# Altium footprint library Solar_ESC_AM32.PcbLib: 8 footprints
Each footprint in its own frame and in the unit in brackets; x right, y up, seen from the top. Pads: shape width x height; smd on the part's side, far side on the other; paste and mask are expansions set on the pad; w line width, h text height; cw(c..) or ccw(c..) is an arc to the next point about the centre after c.
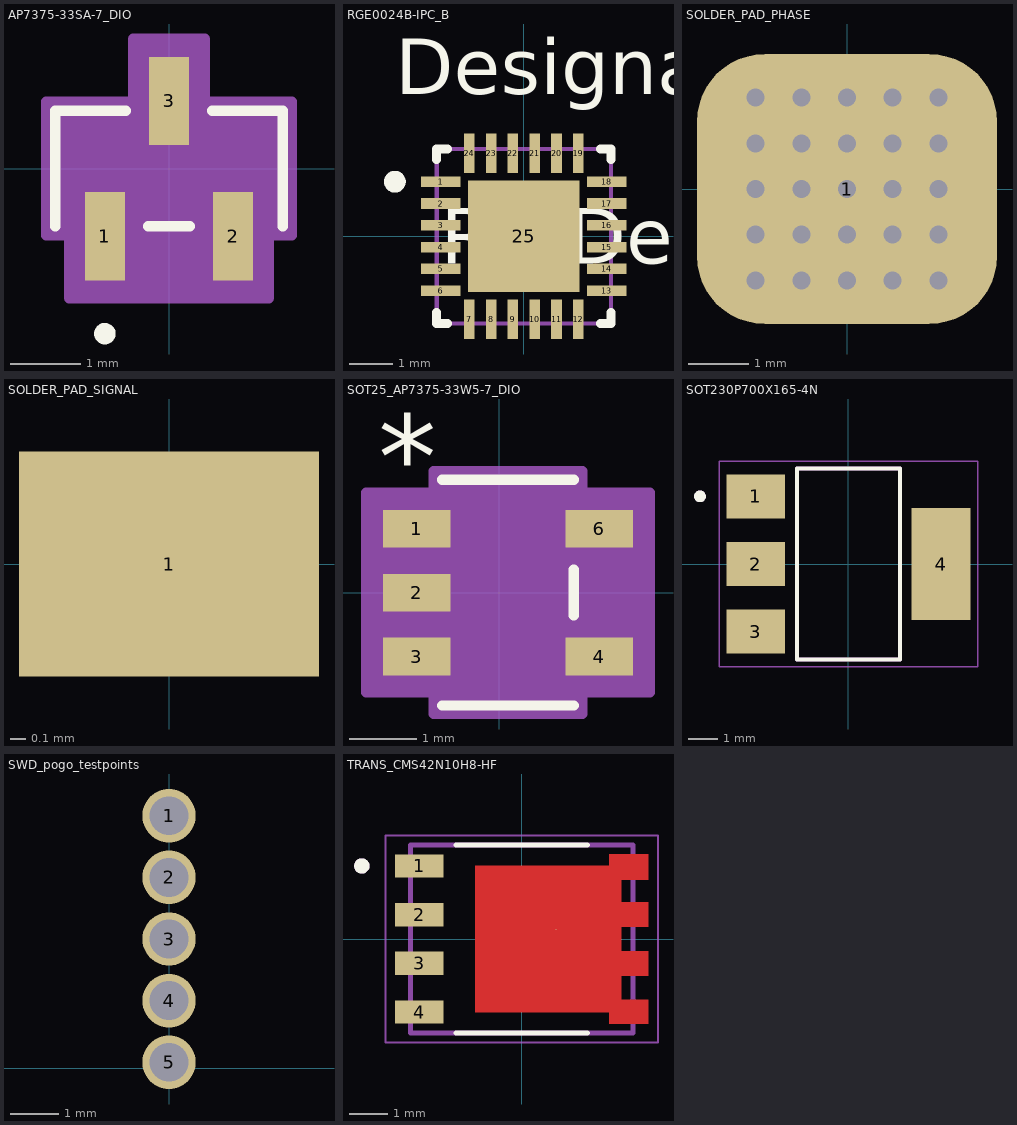
[diagram p0: the footprints below, top view; thin cyan lines are the x and y axes]

## AP7375-33SA-7_DIO [mil]
pads (3):
  rect 22.36x49.56 smd paste+0 mask+0: 1(-36.02,-38) 2(36.02,-38) 3(0,38)
Top Overlay:
  circle w6: c-36.02,-92.78 r3
  lines w6: -64,-32.5 -64,32.5 -24.28,32.5 ; -11.74,-32.5 11.74,-32.5 ; 24.28,32.5 64,32.5 64,-32.5
Mechanical 13:
  circle w1: c-36.02,-17.5 r3
  lines w1: -59,-27.5 59,-27.5 59,27.5 -59,27.5 -59,-27.5 ; -46.02,-49 -46.02,-27.5 -26.02,-27.5 -26.02,-49 -46.02,-49 ; -10,27.5 10,27.5 10,49 -10,49 -10,27.5 ; 26.02,-49 26.02,-27.5 46.02,-27.5 46.02,-49 26.02,-49
Mechanical 15:
  region: -69,-37.5 -69,37.5 -20,37.5 -20,72.78 20,72.78 20,37.5 69,37.5 69,-37.5 56.02,-37.5 56.02,-72.78 -56.02,-72.78 -56.02,-37.5
  lines w6: -69,-37.5 -69,37.5 -20,37.5 -20,72.78 20,72.78 20,37.5 69,37.5 69,-37.5 56.02,-37.5 56.02,-72.78 -56.02,-72.78 -56.02,-37.5 -69,-37.5
3D body "AP7375-33SA-7_DIO.step": height 43.11, standoff 0, extent -59.02,-49.02 59.02,49.02

## RGE0024B-IPC_B [mm]
pads (25):
  rect 0.91x0.242 smd paste+0 mask+0: 1(-1.901,1.25) 2(-1.901,0.75) 3(-1.901,0.25) 4(-1.901,-0.25) 5(-1.901,-0.75) 6(-1.901,-1.25) 13(1.901,-1.25) 14(1.901,-0.75) 15(1.901,-0.25) 16(1.901,0.25) 17(1.901,0.75) 18(1.901,1.25)
  rect 0.242x0.91 smd paste+0 mask+0: 7(-1.25,-1.901) 8(-0.75,-1.901) 9(-0.25,-1.901) 10(0.25,-1.901) 11(0.75,-1.901) 12(1.25,-1.901) 19(1.25,1.901) 20(0.75,1.901) 21(0.25,1.901) 22(-0.25,1.901) 23(-0.75,1.901) 24(-1.25,1.901)
  rect 2.55x2.55 smd paste-1.262 mask+0: 25(0,0)
Top Overlay:
  circle w0.25: c-2.956,1.25 r0.125
  lines w0.2: -2,-1.75 -2,-2 -1.75,-2 ; -2,1.75 -2,2 -1.75,2 ; 1.75,-2 2,-2 2,-1.75 ; 1.75,2 2,2 2,1.75
  text "RefDes" at -1.905,-0.635 h1.27
  text "Designator452" at -2.946,3.251 h1.27
Top Paste:
  region: -0.806,0.806 -0.806,-0.806 0.806,-0.806 0.806,0.806
Mechanical 13:
  lines w0.1: -2,-2 2,-2 2,2 -2,2 -2,-2

## SOLDER_PAD_PHASE [mm]
pads (1):
  rrect50% 5x4.5 smd paste-2539.97 mask+0.15: 1(0,0)
via -1.524,-1.524 diameter 0.6 hole 0.3
via -1.524,-0.762 diameter 0.6 hole 0.3
via -1.524,0 diameter 0.6 hole 0.3
via -1.524,0.762 diameter 0.6 hole 0.3
via -1.524,1.524 diameter 0.6 hole 0.3
via -0.762,-1.524 diameter 0.6 hole 0.3
via -0.762,-0.762 diameter 0.6 hole 0.3
via -0.762,0 diameter 0.6 hole 0.3
via -0.762,0.762 diameter 0.6 hole 0.3
via -0.762,1.524 diameter 0.6 hole 0.3
via 0,-1.524 diameter 0.6 hole 0.3
via 0,-0.762 diameter 0.6 hole 0.3
via 0,0 diameter 0.6 hole 0.3
via 0,0.762 diameter 0.6 hole 0.3
via 0,1.524 diameter 0.6 hole 0.3
via 0.762,-1.524 diameter 0.6 hole 0.3
via 0.762,-0.762 diameter 0.6 hole 0.3
via 0.762,0 diameter 0.6 hole 0.3
via 0.762,0.762 diameter 0.6 hole 0.3
via 0.762,1.524 diameter 0.6 hole 0.3
via 1.524,-1.524 diameter 0.6 hole 0.3
via 1.524,-0.762 diameter 0.6 hole 0.3
via 1.524,0 diameter 0.6 hole 0.3
via 1.524,0.762 diameter 0.6 hole 0.3
via 1.524,1.524 diameter 0.6 hole 0.3

## SOLDER_PAD_SIGNAL [mm]
pads (1):
  rect 2x1.5 smd paste-2539.97 mask+0.1: 1(0,0)

## SOT25_AP7375-33W5-7_DIO [mil]
pads (5):
  rect 39.56x22 smd paste+0 mask+0: 1(-48.28,37.4) 2(-48.28,0) 3(-48.28,-37.4) 4(58.28,-37.4) 6(58.28,37.4)
Top Overlay:
  lines w6: -33.5,-66 43.5,-66 ; -33.5,66 43.5,66 ; 43.5,-13.3 43.5,13.3
  text "*" at -70.78,54.4 h50
  text ".Designator" at -132.5,-25 h50
Mechanical 13:
  lines w1: -7,61 ccw(c5,61) 17,61 ; -54.06,-47.4 -28.5,-47.4 -28.5,-27.4 -54.06,-27.4 -54.06,-47.4 ; -54.06,-10 -28.5,-10 -28.5,10 -54.06,10 -54.06,-10 ; -54.06,27.4 -28.5,27.4 -28.5,47.4 -54.06,47.4 -54.06,27.4 ; -28.5,-61 -28.5,61 38.5,61 38.5,-61 -28.5,-61 ; 38.5,-47.4 64.06,-47.4 64.06,-27.4 38.5,-27.4 38.5,-47.4 ; 38.5,27.4 64.06,27.4 64.06,47.4 38.5,47.4 38.5,27.4
  text ".Designator" at -132.5,-25 h50
  text "*" at -26,8 h50
Mechanical 15:
  region: -38.5,-58.4 -78.06,-58.4 -78.06,58.4 -38.5,58.4 -38.5,71 48.5,71 48.5,58.4 88.06,58.4 88.06,-58.4 48.5,-58.4 48.5,-71 -38.5,-71
  lines w6: -78.06,-58.4 -38.5,-58.4 -38.5,-71 48.5,-71 48.5,-58.4 88.06,-58.4 88.06,58.4 48.5,58.4 48.5,71 -38.5,71 -38.5,58.4 -78.06,58.4 -78.06,-58.4
3D body "SOT25_AP7375-33W5-7_DIO.step": height 55.12, standoff 0, extent -54.06,-60.98 64.06,60.98

## SOT230P700X165-4N [mm]
height 1.65
pads (4):
  rect 2x1.5 smd paste+0 mask+0.102: 1(-3.15,2.3) 2(-3.15,0) 3(-3.15,-2.3)
  rect 2x3.8 smd paste+0 mask+0.102: 4(3.15,0)
Top Overlay:
  circle w0.2: c-5.05,2.3 r0.1
  lines w0.127: -1.75,-3.25 -1.75,3.25 1.75,3.25 1.75,-3.25 -1.75,-3.25
Mechanical 13:
  circle w0.2: c-5.05,2.3 r0.1
  lines w0.127: -1.75,-3.25 -1.75,3.25 1.75,3.25 1.75,-3.25 -1.75,-3.25
Mechanical 15:
  lines w0.05: -4.4,-3.5 -4.4,3.5 4.4,3.5 4.4,-3.5 -4.4,-3.5
3D body "step_temp.STEP": height 7.05, standoff 0.55, extent -3.567,1.733 3.433,3.383

## SWD_pogo_testpoints [mm]
pads (5):
  round 1.1 smd: 1(0,5.207) 2(0,3.937) 3(0,2.667) 4(0,1.397) 5(0,0.127)
via 0,2.667 diameter 1.1 hole 0.8
via 0,5.207 diameter 1.1 hole 0.8
via 0,3.937 diameter 1.1 hole 0.8
via 0,1.397 diameter 1.1 hole 0.8
via 0,0.127 diameter 1.1 hole 0.8

## TRANS_CMS42N10H8-HF [mm]
pads (5):
  rect 1.27x0.61 smd: 1(-2.67,1.905) 2(-2.67,0.635) 3(-2.67,-0.635) 4(-2.67,-1.905)
  round 0.025 smd: 5(0.889,0.254)
Top Layer:
  region: 3.305,1.548 2.595,1.548 2.595,0.953 3.305,0.953 3.305,0.318 2.595,0.318 2.595,-0.318 3.305,-0.318 3.305,-0.953 2.595,-0.953 2.595,-1.587 3.305,-1.587 3.305,-2.21 2.285,-2.21 2.285,-1.905 -1.215,-1.905 -1.215,1.905 2.285,1.905 2.285,2.21 3.305,2.21
Top Overlay:
  circle w0.2: c-4.17,1.905 r0.1
  lines w0.127: -1.715,-2.45 1.715,-2.45 ; -1.715,2.45 1.715,2.45
Top Paste:
  region: 3.305,1.54 2.285,1.54 2.285,2.22 3.305,2.22
  region: 3.305,0.318 2.285,0.318 2.285,0.953 3.305,0.953
  region: 3.305,-0.953 2.285,-0.953 2.285,-0.318 3.305,-0.318
  region: 3.305,-2.21 2.285,-2.21 2.285,-1.587 3.305,-1.587
  region: 0.31,0.225 -0.77,0.225 -0.77,1.465 0.31,1.465
  region: 0.31,-1.465 -0.77,-1.465 -0.77,-0.225 0.31,-0.225
  region: 1.84,0.225 0.76,0.225 0.76,1.465 1.84,1.465
  region: 1.84,-1.465 0.76,-1.465 0.76,-0.225 1.84,-0.225
Top Solder:
  region: 3.405,1.448 2.695,1.448 2.695,1.052 3.405,1.052 3.405,0.218 2.695,0.218 2.695,-0.218 3.405,-0.218 3.405,-1.052 2.695,-1.052 2.695,-1.488 3.405,-1.488 3.405,-2.31 2.185,-2.31 2.185,-2.005 -1.315,-2.005 -1.315,2.005 2.185,2.005 2.185,2.31 3.405,2.31
Mechanical 13:
  circle w0.2: c-4.17,1.905 r0.1
  lines w0.127: -2.9,-2.45 -2.9,2.45 2.9,2.45 2.9,-2.45 -2.9,-2.45
Mechanical 15:
  lines w0.05: -3.555,-2.7 -3.555,2.7 3.555,2.7 3.555,-2.7 -3.555,-2.7